# Altium footprint library clock_led.PcbLib: 50 footprints (part 4 of 4)
Each footprint in its own frame and in the unit in brackets; x right, y up, seen from the top. Pads: shape width x height; smd on the part's side, far side on the other; paste and mask are expansions set on the pad; w line width, h text height; cw(c..) or ccw(c..) is an arc to the next point about the centre after c.
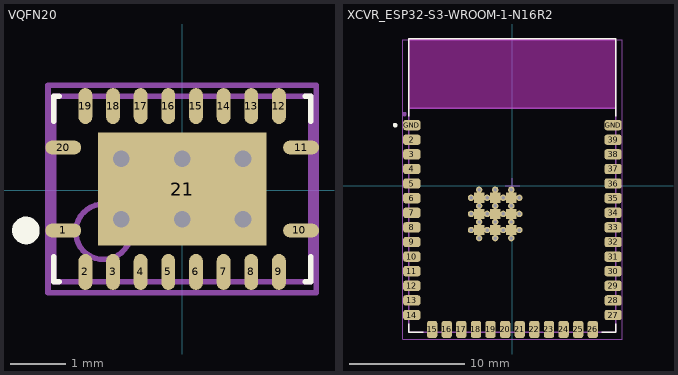
[diagram p3: the footprints below, top view; thin cyan lines are the x and y axes]

## VQFN20 [mm] "PQFN, 20-Leads, Body 3.50x4.50mm, Pitch 1.50mm/0.50mm, Thermal Pad 2.05x3.05mm, IPC High Density"
height 1
pads (21):
  oval 0.65x0.25 smd: 1(-2.15,-0.725) "10 "(2.15,-0.725) 11(2.15,0.775) 20(-2.15,0.775)
  oval 0.25x0.65 smd: 2(-1.75,-1.475) 3(-1.25,-1.475) 4(-0.75,-1.475) 5(-0.25,-1.475) 6(0.25,-1.475) 7(0.75,-1.475) 8(1.25,-1.475) 9(1.75,-1.475) 12(1.75,1.525) 13(1.25,1.525) 14(0.75,1.525) 15(0.25,1.525) 16(-0.25,1.525) 17(-0.75,1.525) 18(-1.25,1.525) 19(-1.75,1.525)
  rect 3.05x2.05 smd: 21(0,0.025)
via 1.1,0.575 diameter 0.7 hole 0.3
via 1.1,-0.525 diameter 0.7 hole 0.3
via 0,0.575 diameter 0.7 hole 0.3
via 0,-0.525 diameter 0.7 hole 0.3
via -1.1,0.575 diameter 0.7 hole 0.3
via -1.1,-0.525 diameter 0.7 hole 0.3
Top Overlay:
  circle w0.25: c-2.825,-0.725 r0.125
  lines w0.102: -2.325,-1.201 -2.325,-1.65 -2.226,-1.65 ; -2.325,1.251 -2.325,1.7 -2.226,1.7 ; 2.226,-1.65 2.325,-1.65 2.325,-1.201 ; 2.226,1.7 2.325,1.7 2.325,1.251
Top Assembly:
  circle w0.1: c-1.424,-0.749 r0.5
  lines w0.102: -2.325,-1.65 -2.325,1.7 2.325,1.7 2.325,-1.65 -2.325,-1.65
Top Courtyard:
  lines w0.1: -0.5,0.025 0.5,0.025 ; 0,-0.475 0,0.525
  lines w0.102: -2.425,-1.85 -2.425,1.9 2.425,1.9 2.425,-1.85 -2.425,-1.85
3D body "VQFN20.step": height 1, standoff 0, extent -2.325,-1.65 2.325,1.7

## XCVR_ESP32-S3-WROOM-1-N16R2 [mm]
height 3.25
pads (73):
  rrect50% 1.5x0.9 smd: 2(-8.75,3.99) 3(-8.75,2.72) 4(-8.75,1.45) 5(-8.75,0.18) 6(-8.75,-1.09) 7(-8.75,-2.36) 8(-8.75,-3.63) 9(-8.75,-4.9) 10(-8.75,-6.17) 11(-8.75,-7.44) 12(-8.75,-8.71) 13(-8.75,-9.98) 14(-8.75,-11.25) 27(8.75,-11.25) 28(8.75,-9.98) 29(8.75,-8.71) 30(8.75,-7.44) 31(8.75,-6.17) 32(8.75,-4.9) 33(8.75,-3.63) 34(8.75,-2.36) 35(8.75,-1.09) 36(8.75,0.18) 37(8.75,1.45) 38(8.75,2.72) 39(8.75,3.99) GND(-8.75,5.26) GND(8.75,5.26)
  rrect50% 0.9x1.5 smd: 15(-6.985,-12.5) 16(-5.715,-12.5) 17(-4.445,-12.5) 18(-3.175,-12.5) 19(-1.905,-12.5) 20(-0.635,-12.5) 21(0.635,-12.5) 22(1.905,-12.5) 23(3.175,-12.5) 24(4.445,-12.5) 25(5.715,-12.5) 26(6.985,-12.5)
  round 0.56 hole 0.3 mask+0: GND(-3.6,-3.86) GND(-3.6,-2.46) GND(-3.6,-1.06) GND(-2.9,-4.56) GND(-2.9,-3.16) GND(-2.9,-1.76) GND(-2.9,-0.36) GND(-2.2,-3.86) GND(-2.2,-2.46) GND(-2.2,-1.06) GND(-1.5,-4.56) GND(-1.5,-3.16) GND(-1.5,-1.76) GND(-1.5,-0.36) GND(-0.8,-3.86) GND(-0.8,-2.46) GND(-0.8,-1.06) GND(-0.1,-4.56) GND(-0.1,-3.16) GND(-0.1,-1.76) GND(-0.1,-0.36) GND(0.6,-3.86) GND(0.6,-2.46) GND(0.6,-1.06)
  rect 0.9x0.9 smd mask+0: GND(-2.9,-3.86) GND(-2.9,-2.46) GND(-2.9,-1.06) GND(-1.5,-3.86) GND(-1.5,-2.46) GND(-1.5,-1.06) GND(-0.1,-3.86) GND(-0.1,-2.46) GND(-0.1,-1.06)
Top Overlay:
  circle w0.2: c-10.2,5.26 r0.1
  lines w0.127: -9,-12.02 -9,-12.75 -7.755,-12.75 ; -9,6.03 -9,12.75 9,12.75 9,6.03 ; 7.755,-12.75 9,-12.75 9,-12.02
Keep-Out Layer:
  region: 9,6.75 -9,6.75 -9,12.75 9,12.75
  region: 9,6.75 -9,6.75 -9,12.75 9,12.75
Top Assembly:
  circle w0.2: c-9.398,6.223 r0.1
  lines w0.127: -9,6.75 -9,-12.75 9,-12.75 9,6.75 ; -9,6.75 -9,12.75 9,12.75 9,6.75 ; -9,6.75 9,6.75
  text "ANTENNA" at -4.5,9.5 h1.27
Top Courtyard:
  lines w0.102: -0.635,0 0.635,0 ; 0,-0.635 0,0.635 ; -9.525,-13.335 -9.525,12.7 9.525,12.7 9.525,-13.335 -9.525,-13.335
3D body "step_temp.STEP": height 3.25, standoff 0, extent -9,-12.75 9,12.75